# EAGLE library part ESP8266 (library ESP8266)
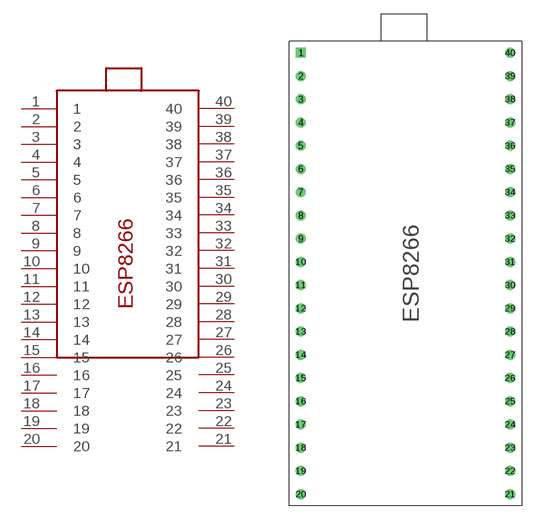
[diagram p0: symbol with the pads of ESP8266; footprint ESP8266]

Designator prefix -

## ESP8266  [ESP8266]
1  1
2  2
3  3
4  4
5  5
6  6
7  7
8  8
9  9
10  10
11  11
12  12
13  13
14  14
15  15
16  16
17  17
18  18
19  19
20  20
21  21
22  22
23  23
24  24
25  25
26  26
27  27
28  28
29  29
30  30
31  31
32  32
33  33
34  34
35  35
36  36
37  37
38  38
39  39
40  40

## Footprint ESP8266 (pad centres in mm)
drill 0.6 square: 1 1.27,-1.27
drill 0.6: 2 1.27,-3.81; 3 1.27,-6.35; 4 1.27,-8.89; 5 1.27,-11.43; 6 1.27,-13.97; 7 1.27,-16.51; 8 1.27,-19.05; 9 1.27,-21.59; 10 1.27,-24.13; 11 1.27,-26.67; 12 1.27,-29.21; 13 1.27,-31.75; 14 1.27,-34.29; 15 1.27,-36.83; 16 1.27,-39.37; 17 1.27,-41.91; 18 1.27,-44.45; 19 1.27,-46.99; 20 1.27,-49.53; 21 24.13,-49.53; 22 24.13,-46.99; 23 24.13,-44.45; 24 24.13,-41.91; 25 24.13,-39.37; 26 24.13,-36.83; 27 24.13,-34.29; 28 24.13,-31.75; 29 24.13,-29.21; 30 24.13,-26.67; 31 24.13,-24.13; 32 24.13,-21.59; 33 24.13,-19.05; 34 24.13,-16.51; 35 24.13,-13.97; 36 24.13,-11.43; 37 24.13,-8.89; 38 24.13,-6.35; 39 24.13,-3.81; 40 24.13,-1.27